# EAGLE library part DRV591 (library Zoli2_2015-01-28)
PWM driver (TEC, laser diode)
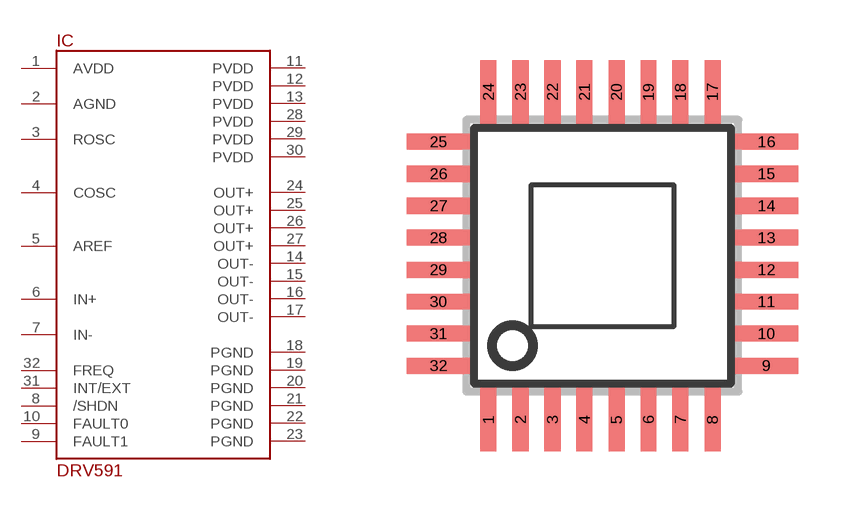
[diagram p25: symbol with the pads of HLQFP-32; footprint HLQFP-32]

Designator prefix IC

## DRV591VFP  [HLQFP-32]
1  AVDD  pwr
2  AGND  pwr
3  ROSC  pas
4  COSC  pas
5  AREF  out
6  IN+  in
7  IN-  in
8  /SHDN  in
9  FAULT1  out
10  FAULT0  out
11  PVDD  pwr
12  PVDD  pwr
13  PVDD  pwr
14  OUT-  out
15  OUT-  out
16  OUT-  out
17  OUT-  out
18  PGND  pwr
19  PGND  pwr
20  PGND  pwr
21  PGND  pwr
22  PGND  pwr
23  PGND  pwr
24  OUT+  out
25  OUT+  out
26  OUT+  out
27  OUT+  out
28  PVDD  pwr
29  PVDD  pwr
30  PVDD  pwr
31  INT/EXT  in
32  FREQ  in

## Footprint HLQFP-32 (pad centres in mm)
smd 0.4 x 1.6: 1 -2.85,-4.1; 2 -2.05,-4.1; 3 -1.25,-4.1; 4 -0.45,-4.1; 5 0.35,-4.1; 6 1.15,-4.1; 7 1.95,-4.1; 8 2.75,-4.1; 17 2.75,4.1; 18 1.95,4.1; 19 1.15,4.1; 20 0.35,4.1; 21 -0.45,4.1; 22 -1.25,4.1; 23 -2.05,4.1; 24 -2.85,4.1
smd 1.6 x 0.4: 9 4.1,-2.75; 10 4.1,-1.95; 11 4.1,-1.15; 12 4.1,-0.35; 13 4.1,0.45; 14 4.1,1.25; 15 4.1,2.05; 16 4.1,2.85; 25 -4.1,2.85; 26 -4.1,2.05; 27 -4.1,1.25; 28 -4.1,0.45; 29 -4.1,-0.35; 30 -4.1,-1.15; 31 -4.1,-1.95; 32 -4.1,-2.75